# Altium schematic symbol library thuvien_ICtester.SchLib: 32 symbols
Pins are listed as number, name and electrical type; pins without a type are passive.

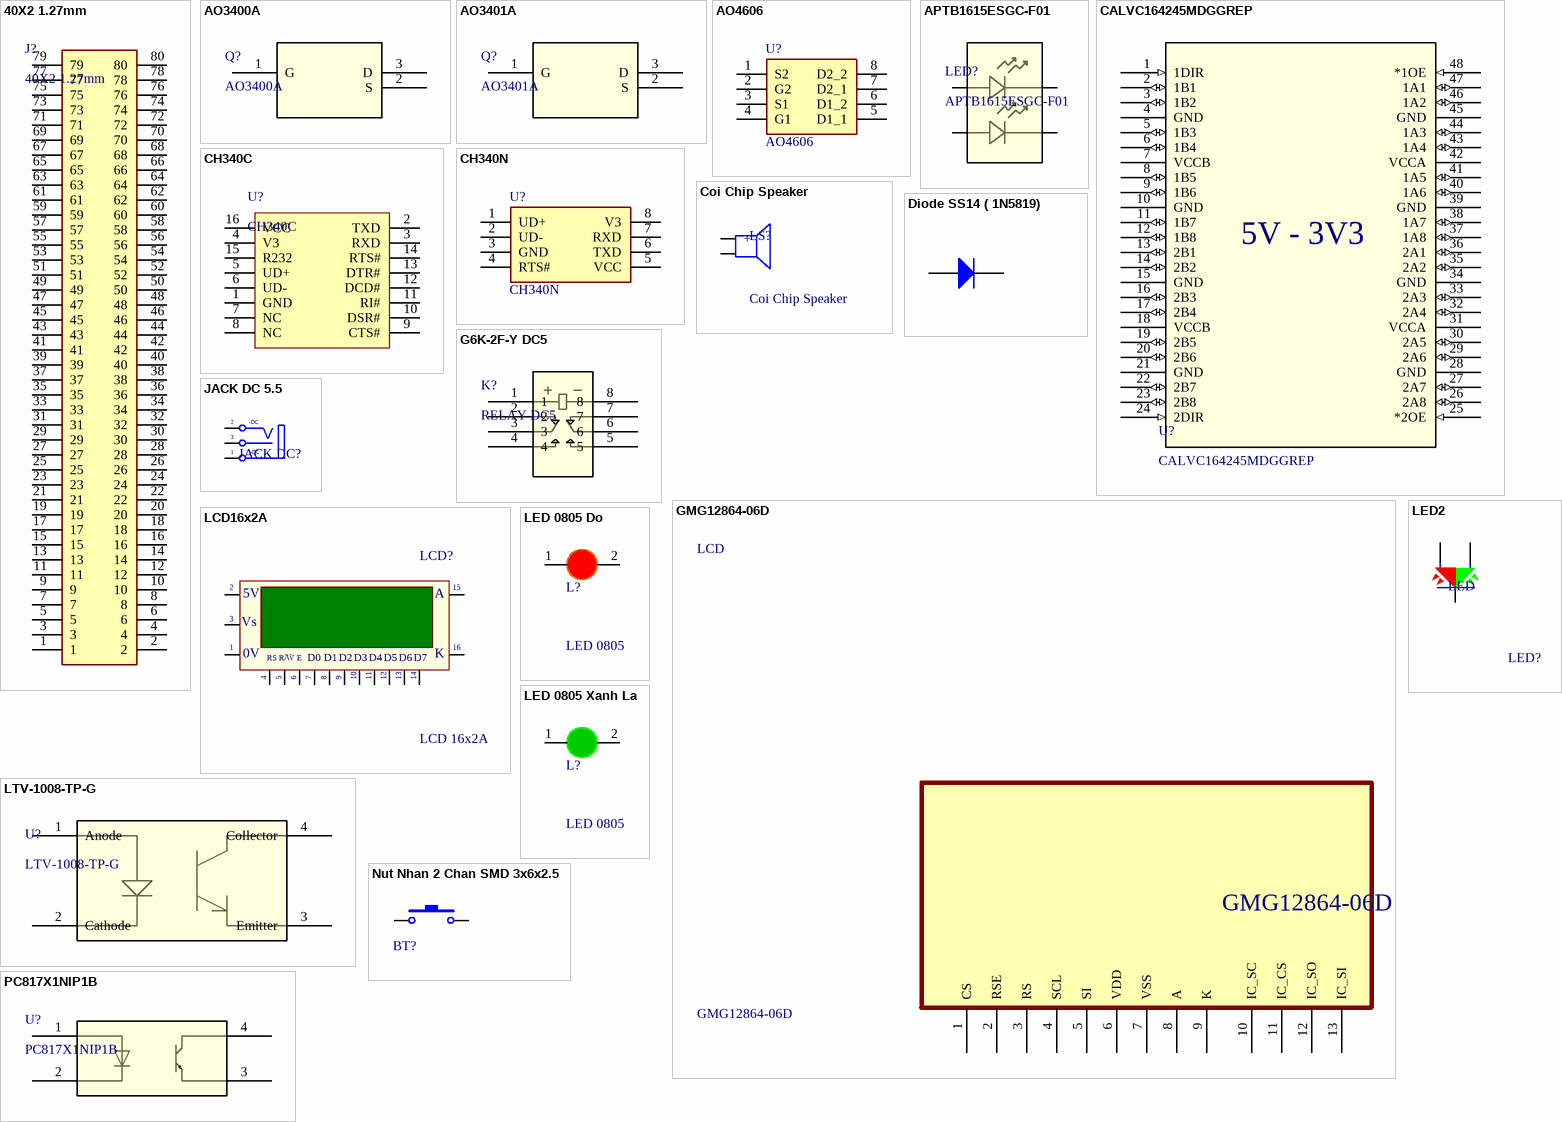
[diagram p0: symbols 40X2 1.27mm to PC817X1NIP1B]

## 40X2 1.27mm
designator J?
Connector; Manufacturer_Name: SAMTEC; Manufacturer_Part_Number: CLP-140-02-G-D-A; Datasheet Link: http://suddendocs.samtec.com/prints/erm8-xxx-xx.x-xxx-dv-xxxx-xx-mkt.pdf; Height: 2.37mm
footprint CLP-140-02-XXX-D-A
pins: 1, 2, 3, 4, 5, 6, 7, 8, 9, 10, 11, 12, 13, 14, 15, 16, 17, 18, 19, 20, 21, 22, 23, 24, 25, 26, 27, 28, 29, 30, 31, 32, 33, 34, 35, 36, 37, 38, 39, 40, 41, 42, 43, 44, 45, 46, 47, 48, 49, 50, 51, 52, 53, 54, 55, 56, 57, 58, 59, 60, 61, 62, 63, 64, 65, 66, 67, 68, 69, 70, 71, 72, 73, 74, 75, 76, 77, 78, 79, 80

## AO3400A
designator Q?
N-MOSFET; Mfr_Name: Alpha and Omega Semiconductor; Type: DEV; Copyright: Copyright (C) 2023 Ultra Librarian. All rights reserved.; Manufacturer_Part_Number: AO3400A; RefDes: RefDes
footprint SOT-23-3L_AOS
pins: 1 G, 2 S, 3 D

## AO3401A
designator Q?
P-MOSFET; Mfr_Name: Alpha and Omega Semiconductor; Type: DEV; Copyright: Copyright (C) 2023 Ultra Librarian. All rights reserved.; Manufacturer_Part_Number: AO3401A; RefDes: RefDes
footprint SOT-23-3L_AOS
pins: 1 G, 2 S, 3 D

## AO4606
designator U?
SMALL SIGNAL FIELD-EFFECT TRANSISTOR, 6A I(D), 30V, 2-ELEMENT, N-CHANNEL AND P-CHANNEL, SILICON, METAL-OXIDE SEMICONDUCTOR FET; Manufacturer_Name: Alpha & Omega Semiconductors; Geometry.Height: 1.75mm; Manufacturer_Part_Number: AO4606; Mouser Part Number: *; Mouser Price/Stock: *; Arrow Part Number: AO4606; Arrow Price/Stock: https://www.arrow.com/en/products/ao4606/alpha-and-omega-semiconductor?region=nac; Datasheet Link: https://datasheet.datasheetarchive.com/originals/distributors/Datasheets-AOS/DSAAOS100079.pdf
footprint SOIC127P600X175-8N
pins: 1 S2, 2 G2, 3 S1, 4 G1, 5 D1_1, 6 D1_2, 7 D2_1, 8 D2_2

## APTB1615ESGC-F01
designator LED?
LED RED/GREEN; Mfr_Name: Kingbright; Type: DEV; Copyright: Copyright (C) 2023 Ultra Librarian. All rights reserved.; Manufacturer_Part_Number: APTB1615ESGC-F01; RefDes: RefDes
footprint APTB1615ESGC-F01_KNB
pins: 1, 2, 3, 4

## CALVC164245MDGGREP
designator U?
3v3-5v, DIR enable; Mfr_Name: Texas Instruments; Copyright: Copyright (C) 2023 Ultra Librarian. All rights reserved.; Manufacturer_Part_Number: CALVC164245MDGGREP; RefDes: RefDes; Type: DEV
footprint DGG48
pins: 1 1DIR (in), 2 1B1 (io), 3 1B2 (io), 4 GND (power), 5 1B3 (io), 6 1B4 (io), 7 VCCB (power), 8 1B5 (io), 9 1B6 (io), 10 GND (power), 11 1B7 (io), 12 1B8 (io), 13 2B1 (io), 14 2B2 (io), 15 GND (power), 16 2B3 (io), 17 2B4 (io), 18 VCCB (power), 19 2B5 (io), 20 2B6 (io), 21 GND (power), 22 2B7 (io), 23 2B8 (io), 24 2DIR (in), 25 *2OE (in), 26 2A8 (io), 27 2A7 (io), 28 GND (power), 29 2A6 (io), 30 2A5 (io), 31 VCCA (power), 32 2A4 (io), 33 2A3 (io), 34 GND (power), 35 2A2 (io), 36 2A1 (io), 37 1A8 (io), 38 1A7 (io), 39 GND (power), 40 1A6 (io), 41 1A5 (io), 42 VCCA (power), 43 1A4 (io), 44 1A3 (io), 45 GND (power), 46 1A2 (io), 47 1A1 (io), 48 *1OE (in)
text: 5V - 3V3

## CH340C
designator U?
USB Bridge, USB to UART USB 2.0 UART Interface; Manufacturer: Olimex; Alternate Part Number-1: NA; Manufacturer Part Number: CH340C; Case/Package: SOIC16; Supplier-1: LCSC; Supplier Part Number-1: C84681
footprint SOIC16_50_284_25X90_SMT
pins: 1 GND, 2 TXD, 3 RXD, 4 V3, 5 UD+, 6 UD-, 7 NC, 8 NC, 9 CTS#, 10 DSR#, 11 RI#, 12 DCD#, 13 DTR#, 14 RTS#, 15 R232, 16 VCC

## CH340N
designator U?
USB to TTL; Manufacturer_Name: Alpha & Omega Semiconductors; Manufacturer_Part_Number: AO4606; Geometry.Height: 1.75mm; Mouser Part Number: *; Mouser Price/Stock: *; Arrow Part Number: AO4606; Arrow Price/Stock: https://www.arrow.com/en/products/ao4606/alpha-and-omega-semiconductor?region=nac; Datasheet Link: https://datasheet.datasheetarchive.com/originals/distributors/Datasheets-AOS/DSAAOS100079.pdf
footprint SOIC127P600X175-8N
pins: 1 UD+, 2 UD-, 3 GND, 4 RTS#, 5 VCC, 6 TXD, 7 RXD, 8 V3

## Coi Chip Speaker
designator LS?
Còi chip
footprint Coi Chip Speacker
pins: 1 +, 2

## Diode SS14 ( 1N5819)
designator D?, comment SS14
Dán; Ma_Hang: MH002211; Don_Vi: Con; Ten_Linh_Kien: Diode SS14 DO214 Schottky 1A 40V ( 1N5819 DO214); Chung_Loai: Dán; Ghi_Chu: *; Kieu_Chan: *
footprint DIODE SMA (SMA)
pins: 1 A, 2 K

## G6K-2F-Y DC5
designator K?, comment RELAY DC5
RELAY MINI; Mfr_Name: Omron; Manufacturer_Part_Number: G6K-2F-Y DC5; Copyright: Copyright (C) 2023 Ultra Librarian. All rights reserved.; RefDes: RefDes; Type: DEV
footprint G6K-2F-Y DC3_OMR
pins: 1, 2, 3, 4, 5, 6, 7, 8

## GMG12864-06D
designator LCD
LatestRevisionDate: 17-Jul-2002; LatestRevisionNote: Re-released for DXP Platform.; Publisher: Altium Limited
footprint GMG12864-06D (9 pins, 1 row, straight, gold plating)
pins: 1 CS, 2 RSE, 3 RS, 4 SCL, 5 SI, 6 VDD, 7 VSS, 8 A, 9 K, 10 IC_SC, 11 IC_CS, 12 IC_SO, 13 IC_SI
2 alternate drawings of the same symbol

## JACK DC 5.5
designator JACK DC?
JACK DC 5.5; Value: Jac DC
footprint JACK DC 5.5 (Jac DC input)
pins: 1 T "Tip", 2 TN "Tip Normal (Break Contact)", 3 S (power) "Sleeve (Ground)"
text: -DC; +DC

## LCD16x2A
designator LCD?, comment LCD 16x2A
LCD dipslay 16 char, 2 line; Value: LCD16x2A
footprint LCD16X2N (LCD dipslay 16x2, 16 pin)
pins: 1 GND, 2 VDD, 3 VEE, 4 RS, 5 R/~{W}, 6 ~{EN}, 7 D0, 8 D1, 9 D2, 10 D3, 11 D4, 12 D5, 13 D6, 14 D7, 15 A, 16 K
text: 5V; Vs; |; 0V; R/W; E

## LED2
designator LED?, comment LED
LED 2 colour Green and Red; Value: LED 3 - 5 ly 2 Colour
footprint LED-32 (LED 3 PIN, 3ly Two colour)
pins: 1, 2, 3

## LED 0805 Do
designator L?, comment LED 0805
Dán; Don_Vi: Con; Ma_Hang: MH000897; Ten_Linh_Kien: LED 0805 Màu Đỏ (Red); Ghi_Chu: *; Kieu_Chan: *; Chung_Loai: Dán
footprint LED-0805-Red
pins: 1 A, 2 K

## LED 0805 Xanh La
designator L?, comment LED 0805
Dán; Don_Vi: Con; Ma_Hang: MH002326; Ten_Linh_Kien: LED 0805 Màu Xanh Lá (Green); Ghi_Chu: *; Kieu_Chan: *; Chung_Loai: Dán
footprint LED-0805-Green
pins: 1 A, 2 K

## LTV-1008-TP-G
designator U?
No Description Available; Mfr_Name: LITE-ON; Copyright: Copyright (C) 2023 Ultra Librarian. All rights reserved.; Manufacturer_Part_Number: LTV-1008-TP-G; RefDes: RefDes; Type: DEV
footprint SOIC_008-TP-G_LTO
pins: 1 Anode, 2 Cathode, 3 Emitter, 4 Collector

## Nut Nhan 2 Chan SMD 3x6x2.5
designator BT?
Nut Nhan 2 Chan SMD 3x6x2.5; Ma_Hang: MH001036; Ten: Nút Nhấn 2 Chân 3x6x2.5MM SMD
footprint Nut Nhan 2 Chan SMD 3x6x2.5 (Footprint not found)
pins: 1, 2

## PC817X1NIP1B
designator U?
cach ly quang; Mfr_Name: Sharp; Copyright: Copyright (C) 2023 Ultra Librarian. All rights reserved.; Manufacturer_Part_Number: PC817X1NIP1B; RefDes: RefDes; Type: DEV
footprint PC817XI_SHP
pins: 1, 2, 3, 4

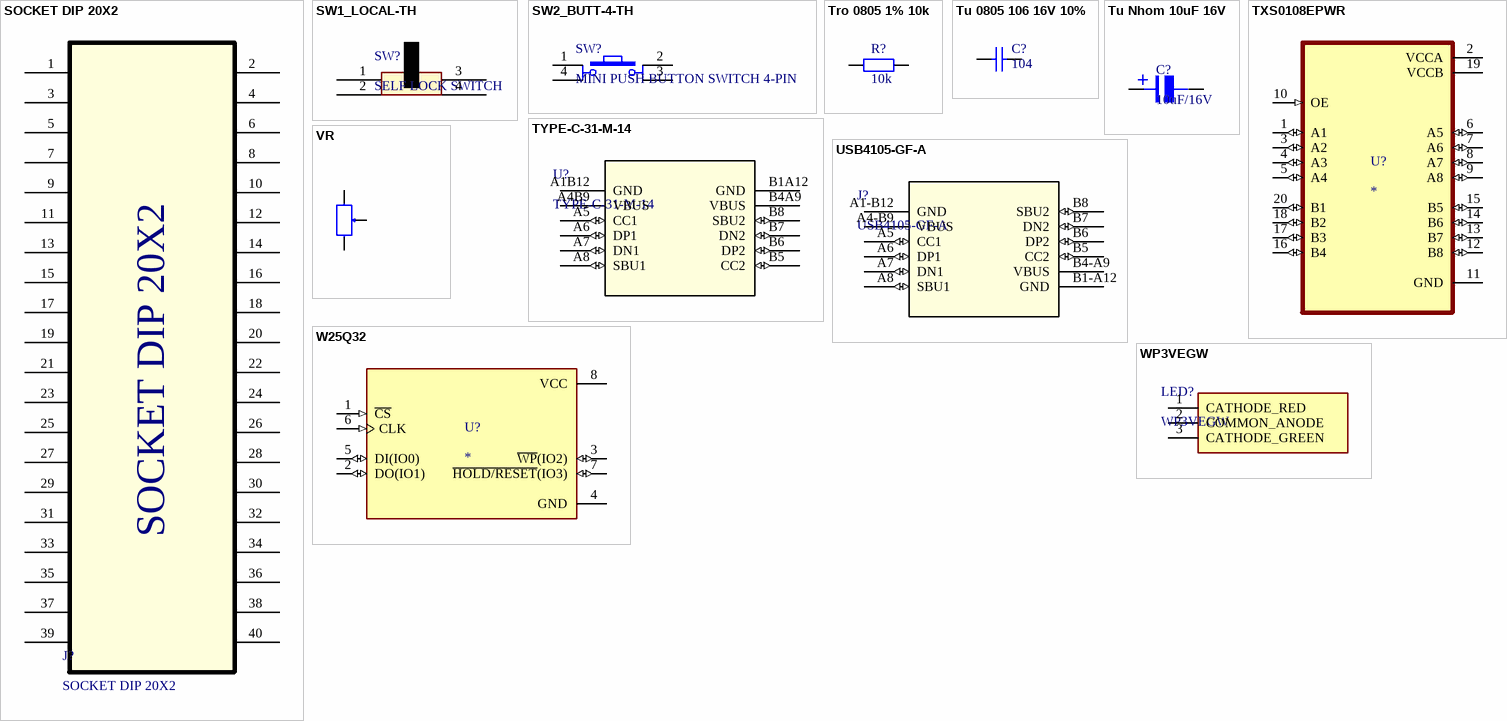
[diagram p1: symbols SOCKET DIP 20X2 to WP3VEGW]

## SOCKET DIP 20X2
designator J?
Mfr_Name: Aries; Manufacturer_Part_Number: 40-6554-10; Type: DEV; Copyright: Copyright (C) 2023 Ultra Librarian. All rights reserved.; RefDes: RefDes
footprint CONN40_40-6554_ARS
pins: 1, 2, 3, 4, 5, 6, 7, 8, 9, 10, 11, 12, 13, 14, 15, 16, 17, 18, 19, 20, 21, 22, 23, 24, 25, 26, 27, 28, 29, 30, 31, 32, 33, 34, 35, 36, 37, 38, 39, 40

## SW1_LOCAL-TH
designator SW?, comment SELF LOCK SWITCH
6 Pin DPDT Mini Push Button Self-locking Switch Multimeter Switch; Manufacturer Part Number: NA; Case/Package: TH; Manufacturer: NA; Supplier-1: SP ROAD; Supplier Part Number-1: NA; Alternate Part Number-1: NA
footprint SW_70_31.5D47_TH_ST
pins: 1, 2, 3, 4

## SW2_BUTT-4-TH
designator SW?, comment MINI PUSH BUTTON SWITCH 4-PIN
Tactile Switches MINI PUSH BUTTON SWITCH 4-PIN QTY. 4; Manufacturer: Gravitech; Manufacturer Part Number: BUTT-4; Alternate Part Number-1: NA; Case/Package: TH; Supplier-1: SP ROAD; Supplier Part Number-1: BUTT-4
footprint SW_70_31.5D47_TH_ST
pins: 1, 2, 3, 4

## Tro 0805 1% 10k
designator R?, comment 10k
Dán; Don_Vi: Con; So_Chan: 2; Ten_Linh_Kien: Trở 0805 1% 10k; Ma_Hang: MH005473; Chung_Loai: Dán; Kieu_Chan: *
footprint tro smd 0805
pins: 1, 2

## Tu 0805 106 16V 10%
designator C?, comment 104
Dán; Ten_Linh_Kien: Tụ 0805 106-10uF 10% 16V; So_Chan: 2; Don_Vi: Con; Ma_Hang: MH004553; Chung_Loai: Dán; Kieu_Chan: *
footprint tu 0805 (Compoment SMD 80x50mil)
pins: 1, 2

## Tu Nhom 10uF 16V
designator C?, comment 10uF/16V
Dán; Don_Vi: Con; So_Chan: 2; Ten_Linh_Kien: Tụ Nhôm 10uF 16V 4x5MM; Ma_Hang: MH001458; Chung_Loai: Dán; Kieu_Chan: *
footprint tu nhom 4 (b)
pins: 1, 2
text: +

## TXS0108EPWR
designator U?
Chuyển đổi điệp áp 3.3V-5V; MP: TXS0108EPWR; Price: None; Package: None; Availability: Unavailable; Value: *
footprint SOP65P640X120-20N
pins: 1 A1 (io), 2 VCCA (power), 3 A2 (io), 4 A3 (io), 5 A4 (io), 6 A5 (io), 7 A6 (io), 8 A7 (io), 9 A8 (io), 10 OE (in), 11 GND (power), 12 B8 (io), 13 B7 (io), 14 B6 (io), 15 B5 (io), 16 B4 (io), 17 B3 (io), 18 B2 (io), 19 VCCB (power), 20 B1 (io)

## TYPE-C-31-M-14
designator U?
No Description Available; Mfr_Name: HRO Electronics; Copyright: Copyright (C) 2023 Ultra Librarian. All rights reserved.; Manufacturer_Part_Number: TYPE-C-31-M-14; RefDes: RefDes; Type: DEV
footprint TYPE-C-31-M-14_HRO
pins: A1B12 GND (power), A4B9 VBUS (power), A5 CC1 (io), A6 DP1 (io), A7 DN1 (io), A8 SBU1 (io), B1A12 GND (power), B4A9 VBUS (power), B5 CC2 (io), B6 DP2 (io), B7 DN2 (io), B8 SBU2 (io)

## USB4105-GF-A
designator J?
No Description Available; Mfr_Name: Global Connector Technology; Copyright: Copyright (C) 2023 Ultra Librarian. All rights reserved.; Manufacturer_Part_Number: USB4105-GF-A; RefDes: RefDes; Type: DEV
footprint USB4105_GCT
pins: A1-B12 GND (power), A4-B9 VBUS (power), A5 CC1 (io), A6 DP1 (io), A7 DN1 (io), A8 SBU1 (io), B1-A12 GND (power), B4-A9 VBUS (power), B5 CC2 (io), B6 DP2 (io), B7 DN2 (io), B8 SBU2 (io)

## VR
designator VR?, comment 10K
Var Resistor; Value: VR 10K
footprint 3362P_1
pins: 1, 2, 3

## W25Q32
designator U?
3v 16m-Bit Serial Flash Memory With Dual; MF: {'manufacturer': u'Winbond Electronics'}; MP: W25Q16JVSSIQ; Availability: Unavailable; Value: *; Package: None; Price: None
footprint WIN_SS-8_WIN
pins: 1 ~{CS} (in), 2 DO(IO1) (io), 3 ~{WP}(IO2) (io), 4 GND (power), 5 DI(IO0) (io), 6 CLK (in), 7 ~{HOLD/RESET}(IO3) (io), 8 VCC (power)

## WP3VEGW
designator LED?
LED RED/GREEN 3mm; Manufacturer_Name: Kingbright; Datasheet Link: https://www.mouser.com/datasheet/2/216/WP3VEGW-47873.pdf; Height: 6.93mm; Manufacturer_Part_Number: WP3VEGW; Mouser Part Number: 604-WP3VEGW; Mouser Price/Stock: https://www.mouser.co.uk/ProductDetail/Kingbright/WP3VEGW?qs=58z0TXQGVSS6OtgxGPtI4A%3D%3D; Arrow Part Number: WP3VEGW; Arrow Price/Stock: https://www.arrow.com/en/products/wp3vegw/kingbright?region=nac
footprint WP3VEGW
pins: 1 CATHODE_RED, 2 COMMON_ANODE, 3 CATHODE_GREEN